# EAGLE library part MIC35302WD (library voltage_regulators)
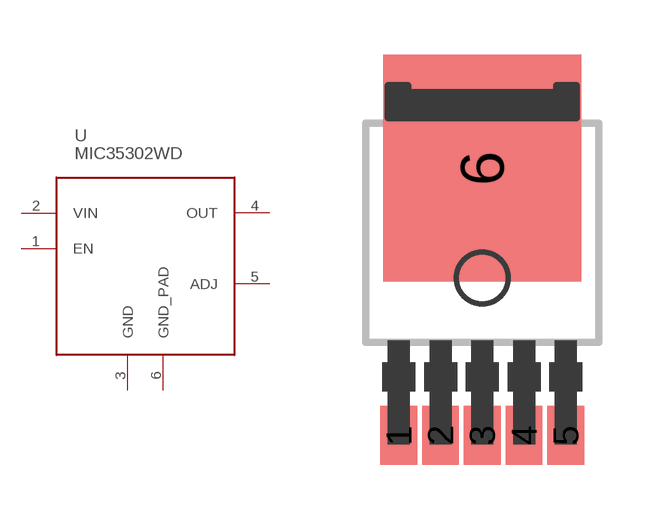
[diagram p5: symbol with the pads of TO252-5; footprint TO252-5]

Designator prefix -

## MIC35302WD  [TO252-5]
1  EN
2  VIN
3  GND
4  OUT
5  ADJ
6  GND_PAD

## Footprint TO252-5 (pad centres in mm)
smd 1 x 1.6: 1 -2.28,-2.26; 2 -1.14,-2.26; 3 0,-2.26; 4 1.14,-2.26; 5 2.28,-2.26
smd 5.4 x 6.2: 6 0,5.04